# EAGLE library part ARDUINO_MINI_SE1 (library SKAARHOJ)
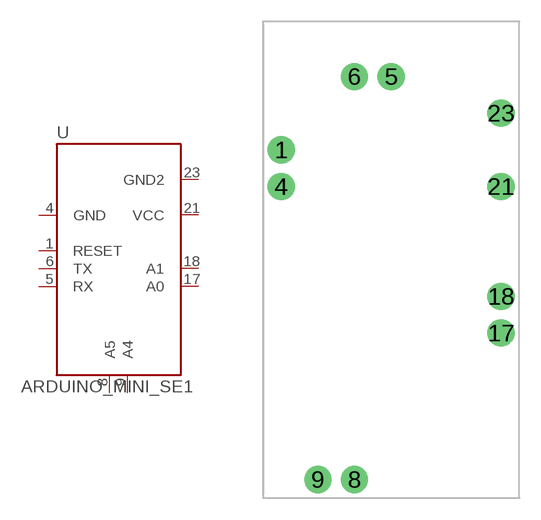
[diagram p10: symbol with the pads of ARDUINO_MINI_SE1; footprint ARDUINO_MINI_SE1]

Designator prefix -

## ARDUINO_MINI_SE1  [ARDUINO_MINI_SE1]
1  RESET
4  GND
5  RX
6  TX
8  A5
9  A4
17  A0
18  A1
21  VCC
23  GND2

## Footprint ARDUINO_MINI_SE1 (pad centres in mm)
drill 1.016 pad 1.88: 1 -7.62,7.62; 4 -7.62,5.08; 5 0,12.7; 6 -2.54,12.7; 8 -2.54,-15.24; 9 -5.08,-15.24; 17 7.62,-5.08; 18 7.62,-2.54; 21 7.62,5.08; 23 7.62,10.16